# Altium footprint library Components - 22.04.20 - 00.20.PcbLib: 1 footprints
Each footprint in its own frame and in the unit in brackets; x right, y up, seen from the top. Pads: shape width x height; smd on the part's side, far side on the other; paste and mask are expansions set on the pad; w line width, h text height; cw(c..) or ccw(c..) is an arc to the next point about the centre after c.
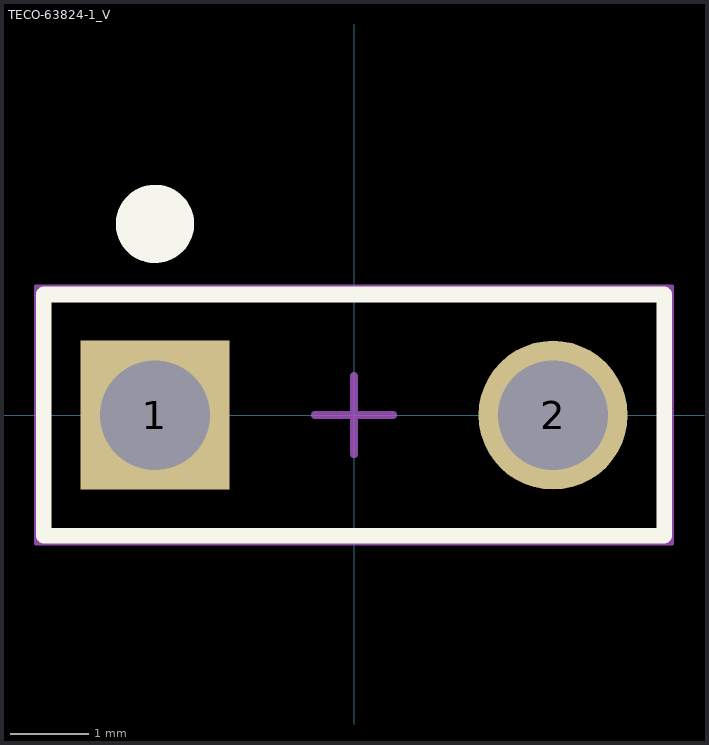
[diagram p0: the footprint, top view; thin cyan lines are the x and y axes]

## TECO-63824-1_V [mm] "THD, 2-Leads, Body 7.92x3.08mm, Pitch 5.08mm"
height 10.21
pads (2):
  rect 1.9x1.9 hole 1.4: 1(-2.54,0)
  round 1.9 hole 1.4: 2(2.54,0)
Top Overlay:
  circle w0.5: c-2.54,2.44 r0.25
  lines w0.2: -3.96,-1.54 -3.96,1.54 3.96,1.54 3.96,-1.54 -3.96,-1.54
Mechanical 13:
  lines w0.1: -3.96,-1.54 -3.96,1.54 3.96,1.54 3.96,-1.54 -3.96,-1.54
Mechanical 15:
  lines w0.05: -4.06,-1.64 4.06,-1.64 4.06,1.64 -4.06,1.64 -4.06,-1.64
  lines w0.1: -0.5,0 0.5,0 ; 0,-0.5 0,0.5
3D body "c-63824-1-ad-3d.stp": height 10.21, standoff -3.81, extent -3.96,-1.546 3.965,1.54